# Altium schematic symbol library TPS3847108DBVT.SchLib: 1 symbol
Pins are listed as number, name and electrical type; pins without a type are passive.

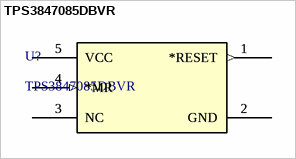
[diagram p0: symbol TPS3847085DBVR]

## TPS3847085DBVR
designator U?
No Description Available; Vendor: Texas Instruments; Built_By: EMA_UL_Team; SourceLibrary: TI_2017-02-16; Manufacturer_Part_Number: TPS3847085DBVR; Copyright: Copyright (C) 2021 Accelerated Designs. All rights reserved; RefDes: RefDes; Type: DEV
footprint DBV5_TEX-M
pins: 1 *RESET (out), 1 *RESET (out), 2 GND (power), 2 GND (power), 3 NC, 3 NC, 4 *MR (in), 4 *MR (in), 5 VCC (power), 5 VCC (power)